# Altium schematic symbol library miniUSB.SchLib: 1 symbol
Pins are listed as number, name and electrical type; pins without a type are passive.

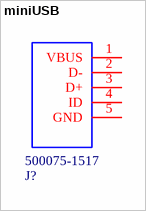
[diagram p0: symbol miniUSB]

## miniUSB
designator J?, comment 500075-1517
footprint miniUSB
pins: 1 VBUS, 2 D-, 3 D+, 4 ID, 5 GND